# EAGLE library part AX5243 (library kj4qlp)
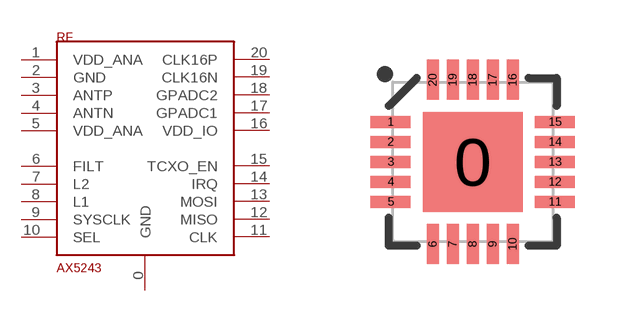
[diagram p0: symbol with the pads of QFN20-4X4MM; footprint QFN20-4X4MM]

Designator prefix RF

## AX5243  [QFN20-4X4MM]
0  GND
1  VDD_ANA
2  GND
3  ANTP
4  ANTN
5  VDD_ANA
6  FILT
7  L2
8  L1
9  SYSCLK
10  SEL
11  CLK
12  MISO
13  MOSI
14  IRQ
15  TCXO_EN
16  VDD_IO
17  GPADC1
18  GPADC2
19  CLK16N
20  CLK16P

## Footprint QFN20-4X4MM (pad centres in mm)
QFN 20-pin, 4x4mm, 0.5mm Pitch Used by AX5243, slightly modified for longer SMD pads Datasheet Example <http://www.onsemi.com/pub/Collateral/AX5243-D.PDF>
smd 2.5 x 2.5: 0 0,0
smd 1 x 0.3: 1 -2.055,1; 2 -2.055,0.5; 3 -2.055,0; 4 -2.055,-0.5; 5 -2.055,-1; 11 2.055,-1; 12 2.055,-0.5; 13 2.055,0; 14 2.055,0.5; 15 2.055,1
smd 0.3 x 1: 6 -1,-2.055; 7 -0.5,-2.055; 8 0,-2.055; 9 0.5,-2.055; 10 1,-2.055; 16 1,2.055; 17 0.5,2.055; 18 0,2.055; 19 -0.5,2.055; 20 -1,2.055